# Altium schematic symbol library 智慧大棚.SchLib: 22 symbols
Pins are listed as number, name and electrical type; pins without a type are passive.

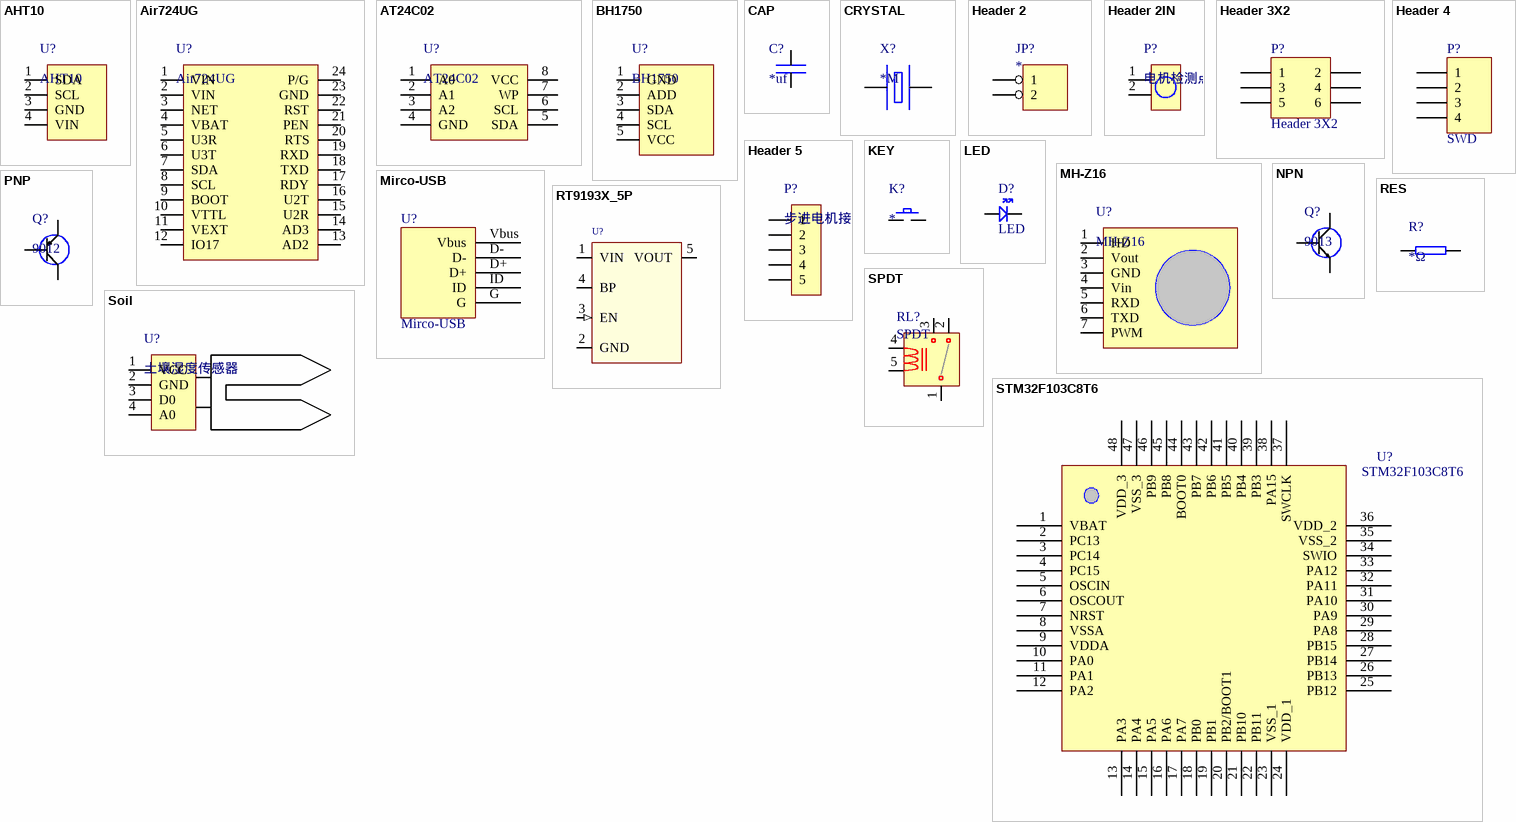
[diagram p0: symbols AHT10 to STM32F103C8T6]

## AHT10
designator U?
温湿度传感器
pins: 1 SDA, 2 SCL, 3 GND, 4 VIN

## Air724UG
designator U?
4G模块
pins: 1 VIN, 2 VIN, 3 NET, 4 VBAT, 5 U3R, 6 U3T, 7 SDA, 8 SCL, 9 BOOT, 10 VTTL, 11 VEXT, 12 IO17, 13 AD2, 14 AD3, 15 U2R, 16 U2T, 17 RDY, 18 TXD, 19 RXD, 20 RTS, 21 PEN, 22 RST, 23 GND, 24 P/G

## AT24C02
designator U?
EEPROM器件
pins: 1 A0, 2 A1, 3 A2, 4 GND, 5 SDA, 6 SCL, 7 WP, 8 VCC

## BH1750
designator U?
光照传感器
pins: 1 GND, 2 ADD, 3 SDA, 4 SCL, 5 VCC

## CAP
designator C?, comment *uf
电容
pins: 1, 2

## CRYSTAL
designator X?, comment *M
晶振
pins: 1, 2

## Header 2
designator JP?
接线端子
pins: 1, 2

## Header 2IN
designator P?, comment 电机检测点
电机位置检测点
pins: 1, 2

## Header 3X2
designator P?
Header, 3-Pin, Dual row; LatestRevisionDate: 17-Jul-2002; LatestRevisionNote: Re-released for DXP Platform.; Publisher: Altium Limited
footprint HDR2X3 (Connector; Header; 3x2 Position)
signal-integrity model Connector
pins: 1, 2, 3, 4, 5, 6

## Header 4
designator P?, comment SWD
Header, 4-Pin; LatestRevisionDate: 17-Jul-2002; LatestRevisionNote: Re-released for DXP Platform.; Publisher: Altium Limited
footprint HDR1X4 (Connector; Header; 4 Position)
signal-integrity model Connector
pins: 1, 2, 3, 4

## Header 5
designator P?, comment 步进电机接口
Header, 5-Pin
pins: 1, 2, 3, 4, 5

## KEY
designator K?
微动开关
pins: 1, 2

## LED
designator D?
发光二极管
pins: 1, 2
2 alternate drawings of the same symbol

## MH-Z16
designator U?
二氧化碳传感器
pins: 1 HD, 2 Vout, 3 GND, 4 Vin, 5 RXD, 6 TXD, 7 PWM

## Mirco-USB
designator U?
Mirco-USB接口
footprint Micro_USB
pins: D+, D-, G, ID, Vbus

## NPN
designator Q?, comment 9013
NPN型三极管
pins: 1, 2, 3

## PNP
designator Q?, comment 9012
PNP型三极管
pins: 1, 2, 3

## RES
designator R?, comment *Ω
电阻
pins: 1, 2

## RT9193X_5P
designator U?, comment RT9193  (value not drawn)
稳压; ICA_MFR_NAME: RICHTEK; ICA_PARTNUM: $$2191094$$RT9193-15CU5; Part Number: TMP-13
footprint SOT-23-5
pins: 1 VIN (power), 2 GND (power), 3 EN (in), 4 BP, 5 VOUT (power)

## Soil
designator U?, comment 土壤湿度传感器
pins: 1 VCC, 2 GND, 3 D0, 4 A0

## SPDT
designator RL?
继电器
pins: 1, 2, 3, 4, 5

## STM32F103C8T6
designator U?
MCU 32bit
footprint 48P
pins: 1 VBAT, 2 PC13, 3 PC14, 4 PC15, 5 OSCIN, 6 OSCOUT, 7 NRST, 8 VSSA, 9 VDDA, 10 PA0, 11 PA1, 12 PA2, 13 PA3, 14 PA4, 15 PA5, 16 PA6, 17 PA7, 18 PB0, 19 PB1, 20 PB2/BOOT1, 21 PB10, 22 PB11, 23 VSS_1, 24 VDD_1, 25 PB12, 26 PB13, 27 PB14, 28 PB15, 29 PA8, 30 PA9, 31 PA10, 32 PA11, 33 PA12, 34 SWIO, 35 VSS_2, 36 VDD_2, 37 SWCLK, 38 PA15, 39 PB3, 40 PB4, 41 PB5, 42 PB6, 43 PB7, 44 BOOT0, 45 PB8, 46 PB9, 47 VSS_3, 48 VDD_3